# Altium footprint library Hello.PcbLib: 234 footprints (part 15 of 15)
Each footprint in its own frame and in the unit in brackets; x right, y up, seen from the top. Pads: shape width x height; smd on the part's side, far side on the other; paste and mask are expansions set on the pad; w line width, h text height; cw(c..) or ccw(c..) is an arc to the next point about the centre after c.
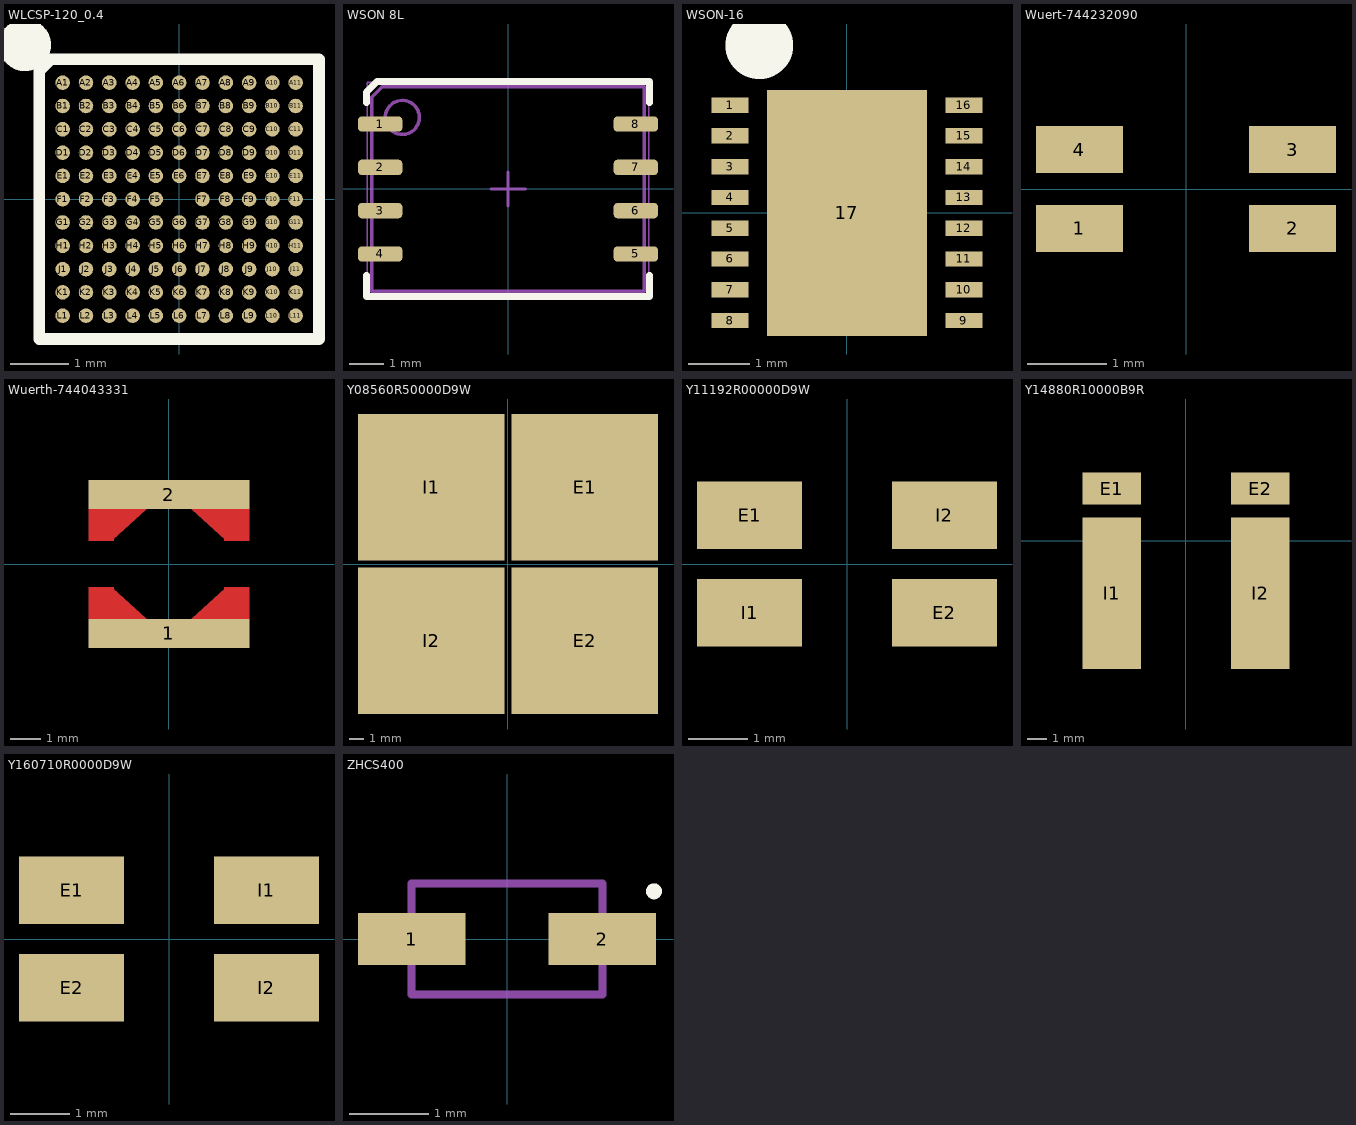
[diagram p14: the footprints below, top view; thin cyan lines are the x and y axes]

## WLCSP-120_0.4 [mm] "Wafer level chip size package, 120 pins, 0.4 mm pitch"
height 0.563
pads (120):
  round 0.25 smd: A1(-2,2) A2(-1.6,2) A3(-1.2,2) A4(-0.8,2) A5(-0.4,2) A6(0,2) A7(0.4,2) A8(0.8,2) A9(1.2,2) A10(1.6,2) A11(2,2) B1(-2,1.6) B2(-1.6,1.6) B3(-1.2,1.6) B4(-0.8,1.6) B5(-0.4,1.6) B6(0,1.6) B7(0.4,1.6) B8(0.8,1.6) B9(1.2,1.6) B10(1.6,1.6) B11(2,1.6) C1(-2,1.2) C2(-1.6,1.2) C3(-1.2,1.2) C4(-0.8,1.2) C5(-0.4,1.2) C6(0,1.2) C7(0.4,1.2) C8(0.8,1.2) C9(1.2,1.2) C10(1.6,1.2) C11(2,1.2) D1(-2,0.8) D2(-1.6,0.8) D3(-1.2,0.8) D4(-0.8,0.8) D5(-0.4,0.8) D6(0,0.8) D7(0.4,0.8) D8(0.8,0.8) D9(1.2,0.8) D10(1.6,0.8) D11(2,0.8) E1(-2,0.4) E2(-1.6,0.4) E3(-1.2,0.4) E4(-0.8,0.4) E5(-0.4,0.4) E6(0,0.4) E7(0.4,0.4) E8(0.8,0.4) E9(1.2,0.4) E10(1.6,0.4) E11(2,0.4) F1(-2,0) F2(-1.6,0) F3(-1.2,0) F4(-0.8,0) F5(-0.4,0) F7(0.4,0) F8(0.8,0) F9(1.2,0) F10(1.6,0) F11(2,0) G1(-2,-0.4) G2(-1.6,-0.4) G3(-1.2,-0.4) G4(-0.8,-0.4) G5(-0.4,-0.4) G6(0,-0.4) G7(0.4,-0.4) G8(0.8,-0.4) G9(1.2,-0.4) G10(1.6,-0.4) G11(2,-0.4) H1(-2,-0.8) H2(-1.6,-0.8) H3(-1.2,-0.8) H4(-0.8,-0.8) H5(-0.4,-0.8) H6(0,-0.8) H7(0.4,-0.8) H8(0.8,-0.8) H9(1.2,-0.8) H10(1.6,-0.8) H11(2,-0.8) J1(-2,-1.2) J2(-1.6,-1.2) J3(-1.2,-1.2) J4(-0.8,-1.2) J5(-0.4,-1.2) J6(0,-1.2) J7(0.4,-1.2) J8(0.8,-1.2) J9(1.2,-1.2) J10(1.6,-1.2) J11(2,-1.2) K1(-2,-1.6) K2(-1.6,-1.6) K3(-1.2,-1.6) K4(-0.8,-1.6) K5(-0.4,-1.6) K6(0,-1.6) K7(0.4,-1.6) K8(0.8,-1.6) K9(1.2,-1.6) K10(1.6,-1.6) K11(2,-1.6) L1(-2,-2) L2(-1.6,-2) L3(-1.2,-2) L4(-0.8,-2) L5(-0.4,-2) L6(0,-2) L7(0.4,-2) L8(0.8,-2) L9(1.2,-2) L10(1.6,-2) L11(2,-2)
Top Overlay:
  circle w0.7: c-2.65,2.65 r0.1
  lines w0.2: -2.4,-2.4 -2.4,2.2 -2.2,2.4 2.4,2.4 2.4,-2.4 -2.4,-2.4
3D body: height 0.56, standoff 0.21, extent -2.65,-2.65 2.65,2.65

## WSON 8L [mm] "WSON 8L 8x6x0.8mm"
height 0.8
pads (8):
  rrect50% 1.3x0.45 smd: 1(-3.75,1.905) 2(-3.75,0.635) 3(-3.75,-0.635) 4(-3.75,-1.905) 5(3.75,-1.905) 6(3.75,-0.635) 7(3.75,0.635) 8(3.75,1.905)
Top Overlay:
  lines w0.2: -4.15,-2.53 -4.15,-3.15 0.01,-3.15 ; -4.15,2.53 -4.15,2.84 -3.84,3.15 0.01,3.15 ; -0.01,-3.15 4.15,-3.15 4.15,-2.53 ; -0.01,3.15 4.15,3.15 4.15,2.53
Mechanical 13:
  circle w0.1: c-3.1,2.1 r0.5
  lines w0.1: -4,-3 4,-3 4,3 -3.69,3 -4,2.69 -4,-3
Mechanical 15:
  lines w0.05: -4.125,-3.125 4.125,-3.125 4.125,3.125 -4.125,3.125 -4.125,-3.125
  lines w0.1: -0.5,0 0.5,0 ; 0,-0.5 0,0.5
3D body: height 0.8, standoff 0, extent -4,-3 4,3

## WSON-16 [mm] "WSON, 16 pins, 0.5 pitch, Medium density"
height 0.8
pads (17):
  rect 0.6x0.25 smd: 1(-1.9,1.75) 2(-1.9,1.25) 3(-1.9,0.75) 4(-1.9,0.25) 5(-1.9,-0.25) 6(-1.9,-0.75) 7(-1.9,-1.25) 8(-1.9,-1.75) 9(1.9,-1.75) 10(1.9,-1.25) 11(1.9,-0.75) 12(1.9,-0.25) 13(1.9,0.25) 14(1.9,0.75) 15(1.9,1.25) 16(1.9,1.75)
  rect 2.6x4 smd: 17(0,0)
Top Overlay:
  circle w0.9: c-1.425,2.725 r0.1
3D body: height 0.8, standoff 0, extent -2,-2.5 2,2.5

## Wuert-744232090 [mm] "Common mode line filter"
height 2
pads (4):
  rect 1.1x0.6 smd: 1(-1.35,-0.5) 2(1.35,-0.5) 3(1.35,0.5) 4(-1.35,0.5)
3D body: height 2, standoff 0, extent -1.6,-0.8 1.6,0.8

## Wuerth-744043331 [mm]
height 2.8
pads (2):
  rect 5.3x0.95 smd paste+0: 1(0,-2.275) 2(0,2.275)
Top Layer:
  rectangle: -2.65,-1.8 -1.8,-0.75
  rectangle: -2.65,0.75 -1.8,1.8
  region: 2.65,-0.75 1.8,-0.75 1.8,-1.8 2.65,-1.8
  region: 2.65,1.8 1.8,1.8 1.8,0.75 2.65,0.75
  region: -1.85,-0.8 -1.8,-0.85 -1.8,-1.8 -0.75,-1.8
  region: -1.85,0.8 -1.8,0.85 -1.8,1.8 -0.75,1.8
  region: 1.85,-0.8 1.8,-0.85 1.8,-1.8 0.75,-1.8
  region: 1.85,0.8 1.8,0.85 1.8,1.8 0.75,1.8

## Y08560R50000D9W [mm] "4-wire kelvin resistor"
height 1.02
pads (4):
  rect 9.98x9.98 smd paste-5 mask-5: E1(5.245,5.245) E2(5.245,-5.245) I2(-5.245,-5.245)
  rect 9.98x9.98 smd paste-5: I1(-5.245,5.245)
Top Paste:
  rectangle: -3.3,0.91 -0.91,2.54
  rectangle: 0.91,-2.538 3.3,-0.889
  rectangle: 0.899,0.91 3.29,2.54
  rectangle: -3.3,-2.538 -0.91,-0.889
Top Solder:
  rectangle: -3.3,0.91 -0.91,2.54
  rectangle: 0.899,0.91 3.3,2.54
  rectangle: 0.91,-2.538 3.3,-0.889
  rectangle: -3.3,-2.538 -0.91,-0.889

## Y11192R00000D9W [mil] "4-wire kelvin resistor"
height 40.16
pads (4):
  rect 70x45 smd: E1(-64.96,32.52) E2(65,-32.52) I1(-65,-32.52) I2(65,32.48)

## Y14880R10000B9R [mm] "4-wire kelvin precision resistor, 3637 footprint"
height 0.635
pads (4):
  rect 2.95x1.6 smd: E1(-3.735,2.63) E2(3.735,2.63)
  rect 2.95x7.62 smd: I1(-3.735,-2.63) I2(3.735,-2.63)
3D body: height 1.68, standoff 0, extent -4.632,-6.397 4.614,3.417

## Y160710R0000D9W [mil] "4-wire kelvin resistor"
height 40.16
pads (4):
  rect 70x45 smd: E1(-64.96,32.52) E2(-65,-32.52) I1(65,32.48) I2(65,-32.52)

## ZHCS400 [mm] "schottky diode"
height 1.1
pads (2):
  rect 1.35x0.65 smd: 1(-1.2,0) 2(1.2,0)
Top Overlay:
  circle w0.1: c1.85,0.6 r0.05
Mechanical 13:
  lines w0.1: -1.2,-0.7 1.2,-0.7 1.2,0.7 -1.2,0.7 -1.2,-0.7
3D body: height 1.1, standoff 0, extent 0.9,-0.7 1.2,0.7
3D body: height 1.1, standoff 0, extent -1.2,-0.7 -0.9,0.7
3D body: height 1.1, standoff 0, extent -0.9,-0.7 0.9,0.7